# EAGLE library part POGO-PINS (library lights)
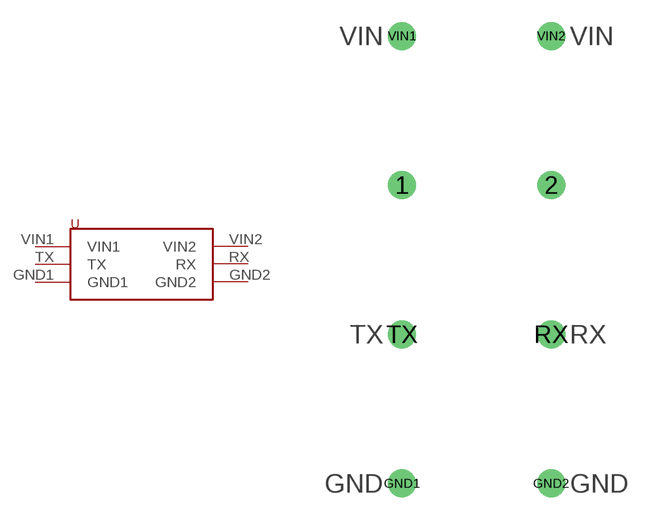
[diagram p4: symbol with the pads of POGO-PINS; footprint POGO-PINS]

Designator prefix -

## POGO-PINS  [POGO-PINS]
GND1  GND1
GND2  GND2
RX  RX
TX  TX
VIN1  VIN1
VIN2  VIN2

## Footprint POGO-PINS (pad centres in mm)
drill 1.27: 1 -5.08,5.08; 2 5.08,5.08; GND1 -5.08,-15.24; GND2 5.08,-15.24; RX 5.08,-5.08; TX -5.08,-5.08; VIN1 -5.08,15.24; VIN2 5.08,15.24